# Altium integrated library Misc_connectors.IntLib: 5 symbols
Pins are listed as number, name and electrical type; pins without a type are passive.

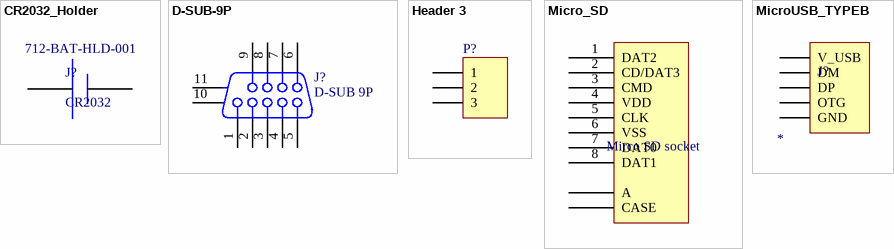
[diagram p0: symbols CR2032_Holder to MicroUSB_TYPEB]

## CR2032_Holder
designator J?, comment CR2032  Supplier Part Number 1: 712-BAT-HLD-001
CR2032 holder; Supplier 1: Mouser
footprint BAT-HLD-001
pins: 1 +, 2 +

## D-SUB-9P
designator J?, comment D-SUB 9P
Receptacle Header Assemby; Supplier 1: Mouser; Supplier Part Number 1: 571-1-1634222-2
signal-integrity model Connector
footprint 1-1634222-2 (D-SUB 9P with Inserts)
pins: 1, 2, 3, 4, 5, 6, 7, 8, 9, 10 MH2, 11 MH1

## Header 3
designator P?
Header, 3-Pin; LatestRevisionDate: 17-Jul-2002; LatestRevisionNote: Re-released for DXP Platform.; Publisher: Altium Limited
signal-integrity model Connector
footprint Header_3
pins: 1, 2, 3

## Micro_SD
designator J?, comment Mirco SD socket
footprint DM3D
footprint HRS_DM3CS-SF
pins: 0 CASE, 1 DAT2, 2 CD/DAT3, 3 CMD, 4 VDD, 5 CLK, 6 VSS, 7 DAT0, 8 DAT1, A

## MicroUSB_TYPEB
designator J?, comment MICRO_USB_TYPE_A  (value not drawn)
PartNumber: *
pins: 1 V_USB, 2 DM, 3 DP, 4 OTG, 5 GND